# Altium schematic symbol library SMF05C.SchLib: 1 symbol
Pins are listed as number, name and electrical type; pins without a type are passive.

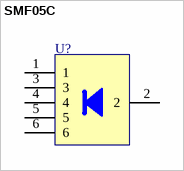
[diagram p0: symbol SMF05C]

## SMF05C
designator U?, comment SOT363  (value not drawn)
GateName_1: G$1; SymbolName_1: TVSARRAY_5LANE; LibraryName: microbuilder; DeviceSetName: TVSARRAY_5LANE; Package: SOT363
footprint SOT363
pins: 1, 2, 3, 4, 5, 6